# EAGLE library part XFMR_WURTH_EP10 (library wheat)
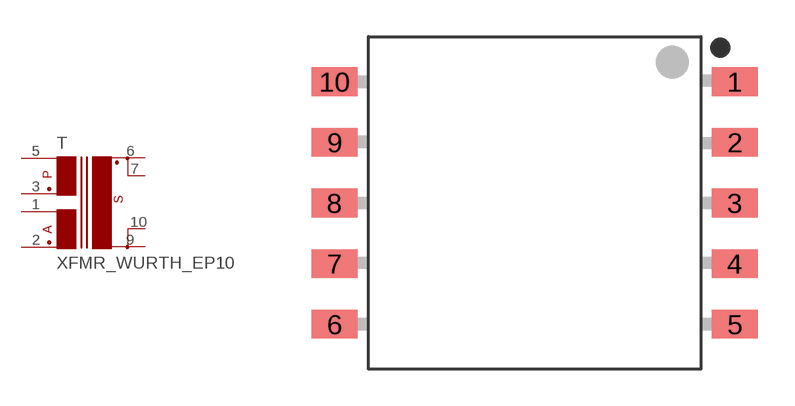
[diagram p204: symbol with the pads of XFMR_EP10_WURTH; footprint XFMR_EP10_WURTH]

Designator prefix T

## XFMR_WURTH_EP10  [XFMR_EP10_WURTH]
1  AN  pas
2  AP  pas
3  PP  pas
5  PN  pas
6  SP1  pas
7  SP2  pas
9  SN1  pas
10  SN2  pas

## Footprint XFMR_EP10_WURTH (pad centres in mm)
smd 1.88 x 1.168: 1 8.18,4.96; 2 8.18,2.48; 3 8.18,0; 4 8.18,-2.48; 5 8.18,-4.96; 6 -8.18,-4.96; 7 -8.18,-2.48; 8 -8.18,0; 9 -8.18,2.48; 10 -8.18,4.96